# Altium schematic symbol library IC_REF5040.SchLib: 1 symbol
Pins are listed as number, name and electrical type; pins without a type are passive.

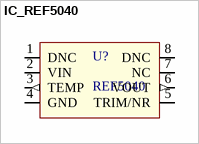
[diagram p0: symbol IC_REF5040]

## IC_REF5040
designator U?, comment REF5040
pins: 1 DNC, 2 VIN (power), 3 TEMP (out), 4 GND (power), 5 TRIM/NR, 6 VOUT (out), 7 NC, 8 DNC